# Altium footprint library Fuse Holder Footprint.PcbLib: 1 footprints
Each footprint in its own frame and in the unit in brackets; x right, y up, seen from the top. Pads: shape width x height; smd on the part's side, far side on the other; paste and mask are expansions set on the pad; w line width, h text height; cw(c..) or ccw(c..) is an arc to the next point about the centre after c.
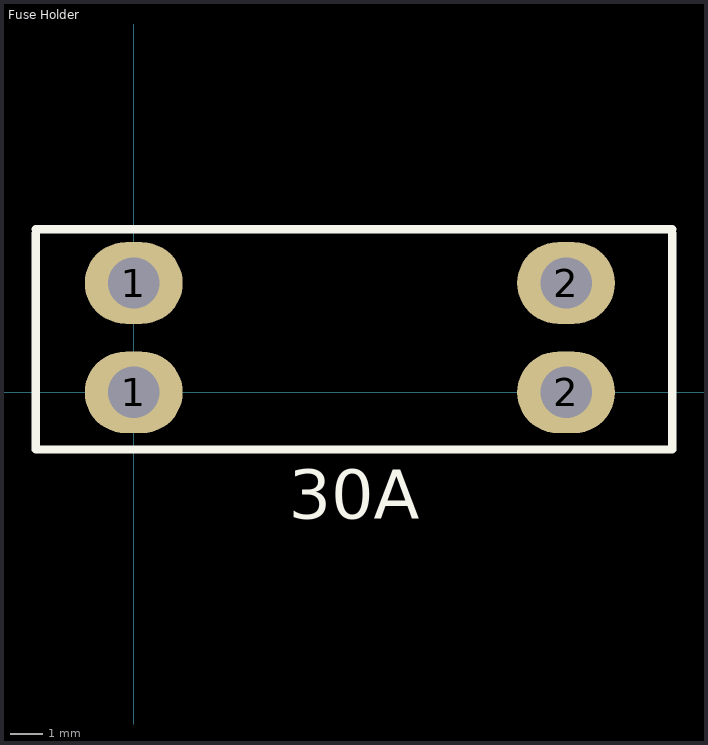
[diagram p0: the footprint, top view; thin cyan lines are the x and y axes]

## Fuse Holder [mil] "30Amp"
pads (4):
  oval 120x100 hole 63: 1(0,0) 1(0,134) 2(530,0) 2(530,134)
Top Overlay:
  lines w10: -120,195 -120,-70 660,-70 660,195 ; -120,200 660,200
  text "30A" at 190,-155 h60